# EAGLE library part RJ45_PLUG (library MetzConnect_RJ45_Plug)
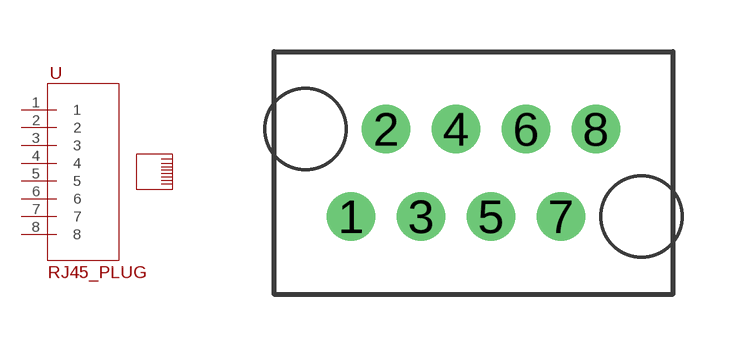
[diagram p0: symbol with the pads of RJ45_PLUG; footprint RJ45_PLUG]

Designator prefix -

## RJ45_PLUG  [RJ45_PLUG]
1  1
2  2
3  3
4  4
5  5
6  6
7  7
8  8

## Footprint RJ45_PLUG (pad centres in mm)
drill 0.9: 1 -3.556,-1.27; 2 -2.54,1.27; 3 -1.524,-1.27; 4 -0.508,1.27; 5 0.508,-1.27; 6 1.524,1.27; 7 2.54,-1.27; 8 3.556,1.27
hole 2.36 at -4.88,1.27
hole 2.36 at 4.88,-1.27